# Altium schematic symbol library LM358AD.SchLib: 1 symbol
Pins are listed as number, name and electrical type; pins without a type are passive.

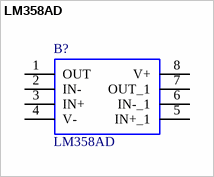
[diagram p0: symbol LM358AD]

## LM358AD
designator B?
LM358AD, Dual Operational Amplifier 1.1MHz 5 to 28V, 8-Pin SO; Manufacturer_Name: STMicroelectronics; Geometry.Height: 1.75mm; RS Part Number: 1657542; Manufacturer_Part_Number: LM358AD; Datasheet Link: http://uk.rs-online.com/web/p/products/1657542
footprint SOIC127P600X175-8N
pins: 1 OUT, 2 IN-, 3 IN+, 4 V-, 5 IN+_1, 6 IN-_1, 7 OUT_1, 8 V+